# EAGLE library part XRP7708ILB-F (library Exar_By_element14_Batch_1)
QUAD CHANNEL DIGITAL PWM STEP DOWN CONTROLLER
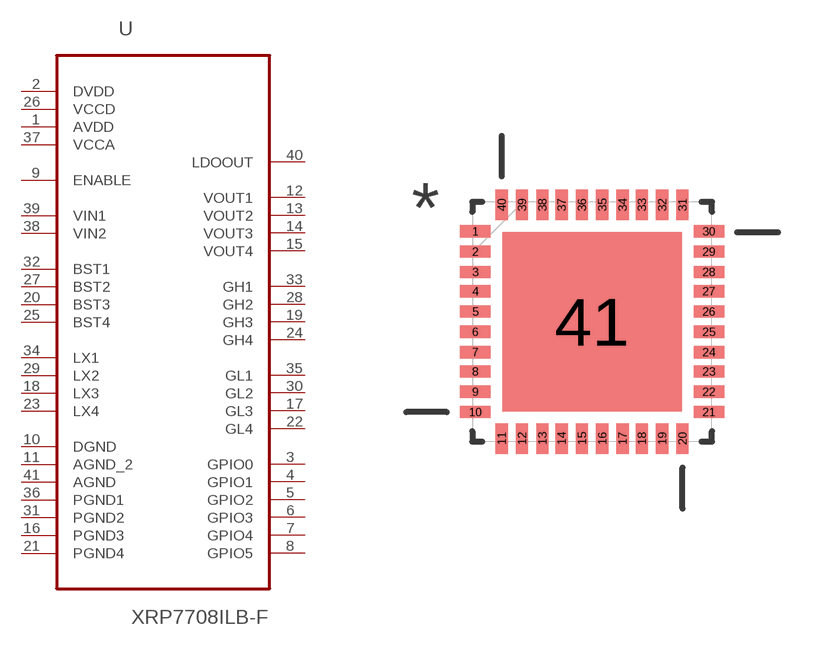
[diagram p102: symbol with the pads of QFN50P600X600X80-41N; footprint QFN50P600X600X80-41N]

Designator prefix U

## XRP7708ILB-F (MPN: XRP7708ILB-F; OC_FARNELL: 1820309; OC_NEWARK: 73R0496; PACKAGE: QFN-40; SUPPLIER: Exar)  [QFN50P600X600X80-41N]
1  AVDD  pwr
2  DVDD  pwr
3  GPIO0
4  GPIO1
5  GPIO2
6  GPIO3
7  GPIO4
8  GPIO5
9  ENABLE  in
10  DGND  pas
11  AGND_2  pas
12  VOUT1  out
13  VOUT2  out
14  VOUT3  out
15  VOUT4  out
16  PGND3  pas
17  GL3  out
18  LX3  in
19  GH3  out
20  BST3  pwr
21  PGND4  pas
22  GL4  out
23  LX4  in
24  GH4  out
25  BST4  pwr
26  VCCD  pwr
27  BST2  pwr
28  GH2  out
29  LX2  in
30  GL2  out
31  PGND2  pas
32  BST1  pwr
33  GH1  out
34  LX1  in
35  GL1  out
36  PGND1  pas
37  VCCA  pwr
38  VIN2  pwr
39  VIN1  in
40  LDOOUT  out
41  AGND  pas

## Footprint QFN50P600X600X80-41N (pad centres in mm)
smd 0.762 x 0.305: 1 -2.921,2.261; 2 -2.921,1.753; 3 -2.921,1.245; 4 -2.921,0.762; 5 -2.921,0.254; 6 -2.921,-0.254; 7 -2.921,-0.762; 8 -2.921,-1.245; 9 -2.921,-1.753; 10 -2.921,-2.261; 21 2.921,-2.261; 22 2.921,-1.753; 23 2.921,-1.245; 24 2.921,-0.762; 25 2.921,-0.254; 26 2.921,0.254; 27 2.921,0.762; 28 2.921,1.245; 29 2.921,1.753; 30 2.921,2.261
smd 0.305 x 0.762: 11 -2.261,-2.921; 12 -1.753,-2.921; 13 -1.245,-2.921; 14 -0.762,-2.921; 15 -0.254,-2.921; 16 0.254,-2.921; 17 0.762,-2.921; 18 1.245,-2.921; 19 1.753,-2.921; 20 2.261,-2.921; 31 2.261,2.921; 32 1.753,2.921; 33 1.245,2.921; 34 0.762,2.921; 35 0.254,2.921; 36 -0.254,2.921; 37 -0.762,2.921; 38 -1.245,2.921; 39 -1.753,2.921; 40 -2.261,2.921
smd 4.496 x 4.496: 41 0,0